# EAGLE library part 19K-S3 (library tof_v5)
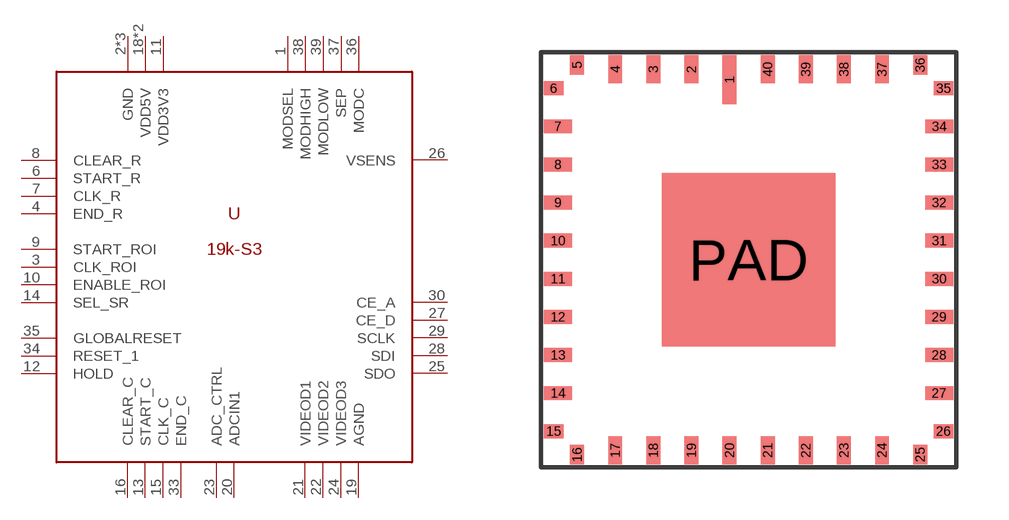
[diagram p2: symbol with the pads of TLCC40; footprint TLCC40]

Designator prefix -

## 19K-S3  [TLCC40]
1  MODSEL  in
2  GND  pwr
3  CLK_ROI  in
4  END_R  out
5  GND  pwr
6  START_R  in
7  CLK_R  in
8  CLEAR_R  in
9  START_ROI  in
10  ENABLE_ROI  out
11  VDD3V3  pwr
12  HOLD  in
13  START_C  in
14  SEL_SR  in
15  CLK_C  in
16  CLEAR_C  in
18  VDD5V  pwr
19  AGND  pwr
20  ADCIN1  in
21  VIDEOD1  out
22  VIDEOD2  out
23  ADC_CTRL  in
24  VIDEOD3  out
25  SDO  out
26  VSENS  in
27  CE_D  in
28  SDI  in
29  SCLK  in
30  CE_A  in
33  END_C  out
34  RESET_1  in
35  GLOBALRESET  in
36  MODC  in
37  SEP  in
38  MODHIGH  pwr
39  MODLOW  pwr
40  VDD5V  pwr
PAD  GND  pwr

## Footprint TLCC40 (pad centres in mm)
smd 0.4 x 1.4: 1 -0.55,5.2
smd 0.4 x 0.8: 2 -1.65,5.5; 3 -2.75,5.5; 4 -3.85,5.5; 17 -3.85,-5.5; 18 -2.75,-5.5; 19 -1.65,-5.5; 20 -0.55,-5.5; 21 0.55,-5.5; 22 1.65,-5.5; 23 2.75,-5.5; 24 3.85,-5.5; 37 3.85,5.5; 38 2.75,5.5; 39 1.65,5.5; 40 0.55,5.5
smd 0.4 x 0.55: 5 -4.95,5.625; 16 -4.95,-5.625; 25 4.95,-5.625; 36 4.95,5.625
smd 0.55 x 0.4: 6 -5.625,4.95; 15 -5.625,-4.95; 26 5.625,-4.95; 35 5.625,4.95
smd 0.8 x 0.4: 7 -5.5,3.85; 8 -5.5,2.75; 9 -5.5,1.65; 10 -5.5,0.55; 11 -5.5,-0.55; 12 -5.5,-1.65; 13 -5.5,-2.75; 14 -5.5,-3.85; 27 5.5,-3.85; 28 5.5,-2.75; 29 5.5,-1.65; 30 5.5,-0.55; 31 5.5,0.55; 32 5.5,1.65; 33 5.5,2.75; 34 5.5,3.85
smd 5 x 5: PAD 0,0